# Altium footprint library 0781271408.PcbLib: 1 footprints
Each footprint in its own frame and in the unit in brackets; x right, y up, seen from the top. Pads: shape width x height; smd on the part's side, far side on the other; paste and mask are expansions set on the pad; w line width, h text height; cw(c..) or ccw(c..) is an arc to the next point about the centre after c.
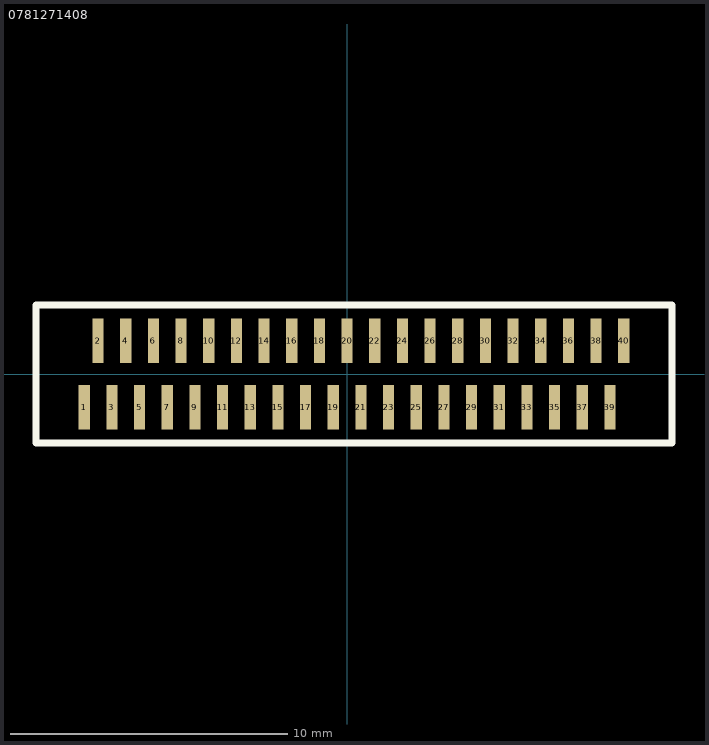
[diagram p0: the footprint, top view; thin cyan lines are the x and y axes]

## 0781271408 [mm]
pads (40):
  rect 0.4x1.6 smd: 1(-9.5,-1.2) 2(-9,1.2) 3(-8.5,-1.2) 4(-8,1.2) 5(-7.5,-1.2) 6(-7,1.2) 7(-6.5,-1.2) 8(-6,1.2) 9(-5.5,-1.2) 10(-5,1.2) 11(-4.5,-1.2) 12(-4,1.2) 13(-3.5,-1.2) 14(-3,1.2) 15(-2.5,-1.2) 16(-2,1.2) 17(-1.5,-1.2) 18(-1,1.2) 19(-0.5,-1.2) 20(0,1.2) 21(0.5,-1.2) 22(1,1.2) 23(1.5,-1.2) 24(2,1.2) 25(2.5,-1.2) 26(3,1.2) 27(3.5,-1.2) 28(4,1.2) 29(4.5,-1.2) 30(5,1.2) 31(5.5,-1.2) 32(6,1.2) 33(6.5,-1.2) 34(7,1.2) 35(7.5,-1.2) 36(8,1.2) 37(8.5,-1.2) 38(9,1.2) 39(9.5,-1.2) 40(10,1.2)
Top Overlay:
  lines w0.254: -11.25,-2.5 11.75,-2.5 11.75,2.5 11.25,2.5 -11.25,2.5 -11.25,-2.5
3D body: height 4.1, standoff 0, extent -10.8,-1.76 11.3,1.69